# Altium footprint library SOD-523F.PCBLIB: 1 footprints
Each footprint in its own frame and in the unit in brackets; x right, y up, seen from the top. Pads: shape width x height; smd on the part's side, far side on the other; paste and mask are expansions set on the pad; w line width, h text height; cw(c..) or ccw(c..) is an arc to the next point about the centre after c.
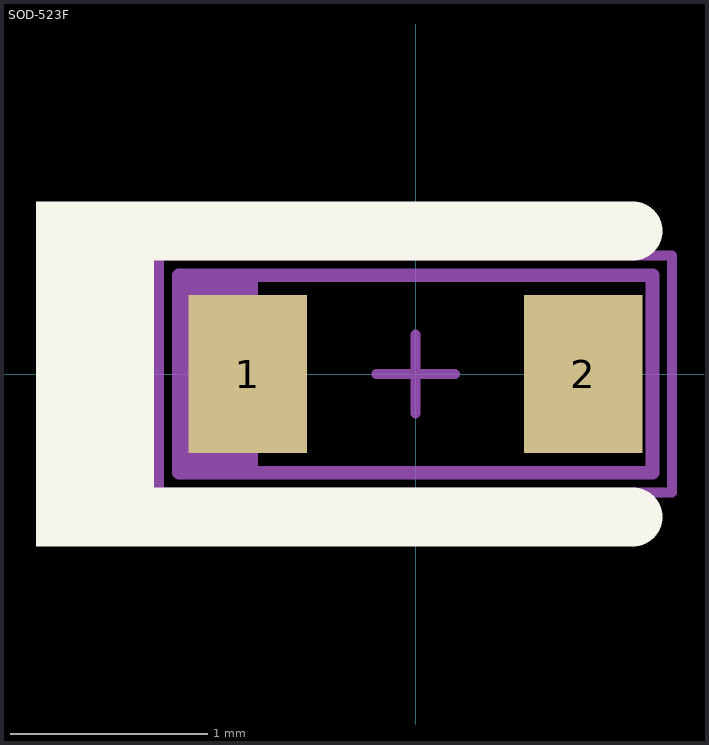
[diagram p0: the footprint, top view; thin cyan lines are the x and y axes]

## SOD-523F [mm] "COMCHIP"
height 0.85
pads (2):
  rect 0.6x0.8 smd paste-0.05: 1(-0.85,0) 2(0.85,0)
Top Overlay:
  rectangle: -1.925,-0.875 -1.325,0.875
  lines w0.3: -1.5,-0.725 1.1,-0.725 ; -1.5,0.725 1.1,0.725
Top Assembly:
  rectangle: -1.2,-0.5 -0.8,0.5
  lines w0.07: -1.2,-0.5 1.2,-0.5 1.2,0.5 -1.2,0.5 -1.2,-0.5
Top Courtyard:
  lines w0.05: -1.3,-0.6 1.3,-0.6 1.3,0.6 -1.3,0.6 -1.3,-0.6
Top Designator:
  text ".Designator" at -0.675,-0.275 h0.46
Top Component Center:
  lines w0.05: -0.2,0 0.2,0 ; 0,-0.2 0,0.2
3D body "Diode_Comchip_Technology_CZRU52C12_eec.STEP": height 0.85, standoff 0, extent -0.85,-0.45 0.85,0.45